# EAGLE library part XC2S300E_PQ208 (library xess)
Xilinx SpartanIIE 300 Kgate FPGA
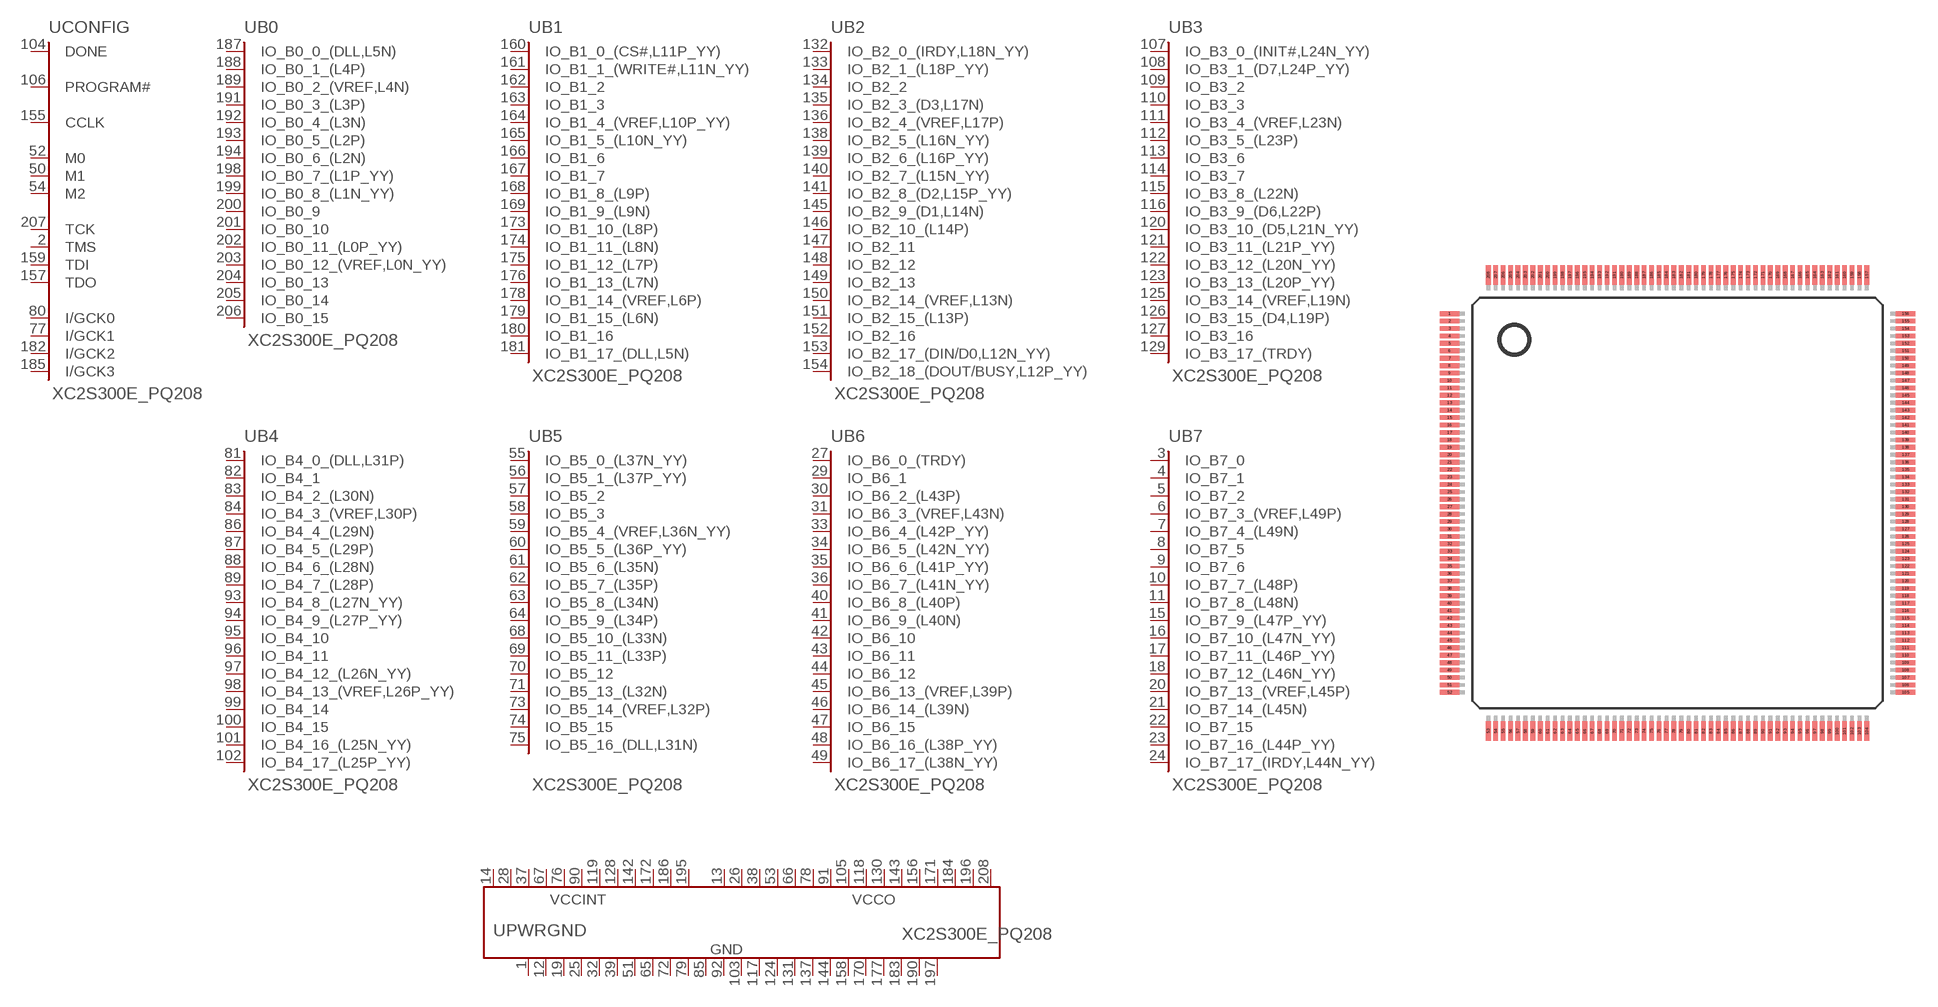
[diagram p14: symbol with the pads of PQ208; footprint PQ208]

Designator prefix U; gates B0=XC2SE_B0 B1=XC2SE_B1 B2=XC2SE_B2 B3=XC2SE_B3 B4=XC2SE_B4 B5=XC2SE_B5 B6=XC2SE_B6 B7=XC2SE_B7 CONFIG=XC2SE_CONFIG PWRGND=XC2SE_PWRGND

## XC2S300E_PQ208  [PQ208]
1  PWRGND:GND  pwr
2  CONFIG:TMS  in
3  B7:IO_B7_0
4  B7:IO_B7_1
5  B7:IO_B7_2
6  B7:IO_B7_3_(VREF,L49P)
7  B7:IO_B7_4_(L49N)
8  B7:IO_B7_5
9  B7:IO_B7_6
10  B7:IO_B7_7_(L48P)
11  B7:IO_B7_8_(L48N)
12  PWRGND:GND  pwr
13  PWRGND:VCCO  pwr
14  PWRGND:VCCINT  pwr
15  B7:IO_B7_9_(L47P_YY)
16  B7:IO_B7_10_(L47N_YY)
17  B7:IO_B7_11_(L46P_YY)
18  B7:IO_B7_12_(L46N_YY)
19  PWRGND:GND  pwr
20  B7:IO_B7_13_(VREF,L45P)
21  B7:IO_B7_14_(L45N)
22  B7:IO_B7_15
23  B7:IO_B7_16_(L44P_YY)
24  B7:IO_B7_17_(IRDY,L44N_YY)
25  PWRGND:GND  pwr
26  PWRGND:VCCO  pwr
27  B6:IO_B6_0_(TRDY)
28  PWRGND:VCCINT  pwr
29  B6:IO_B6_1
30  B6:IO_B6_2_(L43P)
31  B6:IO_B6_3_(VREF,L43N)
32  PWRGND:GND  pwr
33  B6:IO_B6_4_(L42P_YY)
34  B6:IO_B6_5_(L42N_YY)
35  B6:IO_B6_6_(L41P_YY)
36  B6:IO_B6_7_(L41N_YY)
37  PWRGND:VCCINT  pwr
38  PWRGND:VCCO  pwr
39  PWRGND:GND  pwr
40  B6:IO_B6_8_(L40P)
41  B6:IO_B6_9_(L40N)
42  B6:IO_B6_10
43  B6:IO_B6_11
44  B6:IO_B6_12
45  B6:IO_B6_13_(VREF,L39P)
46  B6:IO_B6_14_(L39N)
47  B6:IO_B6_15
48  B6:IO_B6_16_(L38P_YY)
49  B6:IO_B6_17_(L38N_YY)
50  CONFIG:M1  in
51  PWRGND:GND  pwr
52  CONFIG:M0  in
53  PWRGND:VCCO  pwr
54  CONFIG:M2  in
55  B5:IO_B5_0_(L37N_YY)
56  B5:IO_B5_1_(L37P_YY)
57  B5:IO_B5_2
58  B5:IO_B5_3
59  B5:IO_B5_4_(VREF,L36N_YY)
60  B5:IO_B5_5_(L36P_YY)
61  B5:IO_B5_6_(L35N)
62  B5:IO_B5_7_(L35P)
63  B5:IO_B5_8_(L34N)
64  B5:IO_B5_9_(L34P)
65  PWRGND:GND  pwr
66  PWRGND:VCCO  pwr
67  PWRGND:VCCINT  pwr
68  B5:IO_B5_10_(L33N)
69  B5:IO_B5_11_(L33P)
70  B5:IO_B5_12
71  B5:IO_B5_13_(L32N)
72  PWRGND:GND  pwr
73  B5:IO_B5_14_(VREF,L32P)
74  B5:IO_B5_15
75  B5:IO_B5_16_(DLL,L31N)
76  PWRGND:VCCINT  pwr
77  CONFIG:I/GCK1  in
78  PWRGND:VCCO  pwr
79  PWRGND:GND  pwr
80  CONFIG:I/GCK0  in
81  B4:IO_B4_0_(DLL,L31P)
82  B4:IO_B4_1
83  B4:IO_B4_2_(L30N)
84  B4:IO_B4_3_(VREF,L30P)
85  PWRGND:GND  pwr
86  B4:IO_B4_4_(L29N)
87  B4:IO_B4_5_(L29P)
88  B4:IO_B4_6_(L28N)
89  B4:IO_B4_7_(L28P)
90  PWRGND:VCCINT  pwr
91  PWRGND:VCCO  pwr
92  PWRGND:GND  pwr
93  B4:IO_B4_8_(L27N_YY)
94  B4:IO_B4_9_(L27P_YY)
95  B4:IO_B4_10
96  B4:IO_B4_11
97  B4:IO_B4_12_(L26N_YY)
98  B4:IO_B4_13_(VREF,L26P_YY)
99  B4:IO_B4_14
100  B4:IO_B4_15
101  B4:IO_B4_16_(L25N_YY)
102  B4:IO_B4_17_(L25P_YY)
103  PWRGND:GND  pwr
104  CONFIG:DONE  out
105  PWRGND:VCCO  pwr
106  CONFIG:PROGRAM#  in
107  B3:IO_B3_0_(INIT#,L24N_YY)
108  B3:IO_B3_1_(D7,L24P_YY)
109  B3:IO_B3_2
110  B3:IO_B3_3
111  B3:IO_B3_4_(VREF,L23N)
112  B3:IO_B3_5_(L23P)
113  B3:IO_B3_6
114  B3:IO_B3_7
115  B3:IO_B3_8_(L22N)
116  B3:IO_B3_9_(D6,L22P)
117  PWRGND:GND  pwr
118  PWRGND:VCCO  pwr
119  PWRGND:VCCINT  pwr
120  B3:IO_B3_10_(D5,L21N_YY)
121  B3:IO_B3_11_(L21P_YY)
122  B3:IO_B3_12_(L20N_YY)
123  B3:IO_B3_13_(L20P_YY)
124  PWRGND:GND  pwr
125  B3:IO_B3_14_(VREF,L19N)
126  B3:IO_B3_15_(D4,L19P)
127  B3:IO_B3_16
128  PWRGND:VCCINT  pwr
129  B3:IO_B3_17_(TRDY)
130  PWRGND:VCCO  pwr
131  PWRGND:GND  pwr
132  B2:IO_B2_0_(IRDY,L18N_YY)
133  B2:IO_B2_1_(L18P_YY)
134  B2:IO_B2_2
135  B2:IO_B2_3_(D3,L17N)
136  B2:IO_B2_4_(VREF,L17P)
137  PWRGND:GND  pwr
138  B2:IO_B2_5_(L16N_YY)
139  B2:IO_B2_6_(L16P_YY)
140  B2:IO_B2_7_(L15N_YY)
141  B2:IO_B2_8_(D2,L15P_YY)
142  PWRGND:VCCINT  pwr
143  PWRGND:VCCO  pwr
144  PWRGND:GND  pwr
145  B2:IO_B2_9_(D1,L14N)
146  B2:IO_B2_10_(L14P)
147  B2:IO_B2_11
148  B2:IO_B2_12
149  B2:IO_B2_13
150  B2:IO_B2_14_(VREF,L13N)
151  B2:IO_B2_15_(L13P)
152  B2:IO_B2_16
153  B2:IO_B2_17_(DIN/D0,L12N_YY)
154  B2:IO_B2_18_(DOUT/BUSY,L12P_YY)
155  CONFIG:CCLK  in
156  PWRGND:VCCO  pwr
157  CONFIG:TDO  out
158  PWRGND:GND  pwr
159  CONFIG:TDI  in
160  B1:IO_B1_0_(CS#,L11P_YY)
161  B1:IO_B1_1_(WRITE#,L11N_YY)
162  B1:IO_B1_2
163  B1:IO_B1_3
164  B1:IO_B1_4_(VREF,L10P_YY)
165  B1:IO_B1_5_(L10N_YY)
166  B1:IO_B1_6
167  B1:IO_B1_7
168  B1:IO_B1_8_(L9P)
169  B1:IO_B1_9_(L9N)
170  PWRGND:GND  pwr
171  PWRGND:VCCO  pwr
172  PWRGND:VCCINT  pwr
173  B1:IO_B1_10_(L8P)
174  B1:IO_B1_11_(L8N)
175  B1:IO_B1_12_(L7P)
176  B1:IO_B1_13_(L7N)
177  PWRGND:GND  pwr
178  B1:IO_B1_14_(VREF,L6P)
179  B1:IO_B1_15_(L6N)
180  B1:IO_B1_16
181  B1:IO_B1_17_(DLL,L5N)
182  CONFIG:I/GCK2  in
183  PWRGND:GND  pwr
184  PWRGND:VCCO  pwr
185  CONFIG:I/GCK3  in
186  PWRGND:VCCINT  pwr
187  B0:IO_B0_0_(DLL,L5N)
188  B0:IO_B0_1_(L4P)
189  B0:IO_B0_2_(VREF,L4N)
190  PWRGND:GND  pwr
191  B0:IO_B0_3_(L3P)
192  B0:IO_B0_4_(L3N)
193  B0:IO_B0_5_(L2P)
194  B0:IO_B0_6_(L2N)
195  PWRGND:VCCINT  pwr
196  PWRGND:VCCO  pwr
197  PWRGND:GND  pwr
198  B0:IO_B0_7_(L1P_YY)
199  B0:IO_B0_8_(L1N_YY)
200  B0:IO_B0_9
201  B0:IO_B0_10
202  B0:IO_B0_11_(L0P_YY)
203  B0:IO_B0_12_(VREF,L0N_YY)
204  B0:IO_B0_13
205  B0:IO_B0_14
206  B0:IO_B0_15
207  CONFIG:TCK  in
208  PWRGND:VCCO  pwr

## Footprint PQ208 (pad centres in mm)
smd 1.3 x 0.32: 1 -15.358,12.75; 2 -15.358,12.25; 3 -15.358,11.75; 4 -15.358,11.25; 5 -15.358,10.75; 6 -15.358,10.25; 7 -15.358,9.75; 8 -15.358,9.25; 9 -15.358,8.75; 10 -15.358,8.25; 11 -15.358,7.75; 12 -15.358,7.25; 13 -15.358,6.75; 14 -15.358,6.25; 15 -15.358,5.75; 16 -15.358,5.25; 17 -15.358,4.75; 18 -15.358,4.25; 19 -15.358,3.75; 20 -15.358,3.25; 21 -15.358,2.75; 22 -15.358,2.25; 23 -15.358,1.75; 24 -15.358,1.25; 25 -15.358,0.75; 26 -15.358,0.25; 27 -15.358,-0.25; 28 -15.358,-0.75; 29 -15.358,-1.25; 30 -15.358,-1.75; 31 -15.358,-2.25; 32 -15.358,-2.75; 33 -15.358,-3.25; 34 -15.358,-3.75; 35 -15.358,-4.25; 36 -15.358,-4.75; 37 -15.358,-5.25; 38 -15.358,-5.75; 39 -15.358,-6.25; 40 -15.358,-6.75; 41 -15.358,-7.25; 42 -15.358,-7.75; 43 -15.358,-8.25; 44 -15.358,-8.75; 45 -15.358,-9.25; 46 -15.358,-9.75; 47 -15.358,-10.25; 48 -15.358,-10.75; 49 -15.358,-11.25; 50 -15.358,-11.75; 51 -15.358,-12.25; 52 -15.358,-12.75; 105 15.358,-12.75; 106 15.358,-12.25; 107 15.358,-11.75; 108 15.358,-11.25; 109 15.358,-10.75; 110 15.358,-10.25; 111 15.358,-9.75; 112 15.358,-9.25; 113 15.358,-8.75; 114 15.358,-8.25; 115 15.358,-7.75; 116 15.358,-7.25; 117 15.358,-6.75; 118 15.358,-6.25; 119 15.358,-5.75; 120 15.358,-5.25; 121 15.358,-4.75; 122 15.358,-4.25; 123 15.358,-3.75; 124 15.358,-3.25; 125 15.358,-2.75; 126 15.358,-2.25; 127 15.358,-1.75; 128 15.358,-1.25; 129 15.358,-0.75; 130 15.358,-0.25; 131 15.358,0.25; 132 15.358,0.75; 133 15.358,1.25; 134 15.358,1.75; 135 15.358,2.25; 136 15.358,2.75; 137 15.358,3.25; 138 15.358,3.75; 139 15.358,4.25; 140 15.358,4.75; 141 15.358,5.25; 142 15.358,5.75; 143 15.358,6.25; 144 15.358,6.75; 145 15.358,7.25; 146 15.358,7.75; 147 15.358,8.25; 148 15.358,8.75; 149 15.358,9.25; 150 15.358,9.75; 151 15.358,10.25; 152 15.358,10.75; 153 15.358,11.25; 154 15.358,11.75; 155 15.358,12.25; 156 15.358,12.75
smd 0.32 x 1.3: 53 -12.75,-15.358; 54 -12.25,-15.358; 55 -11.75,-15.358; 56 -11.25,-15.358; 57 -10.75,-15.358; 58 -10.25,-15.358; 59 -9.75,-15.358; 60 -9.25,-15.358; 61 -8.75,-15.358; 62 -8.25,-15.358; 63 -7.75,-15.358; 64 -7.25,-15.358; 65 -6.75,-15.358; 66 -6.25,-15.358; 67 -5.75,-15.358; 68 -5.25,-15.358; 69 -4.75,-15.358; 70 -4.25,-15.358; 71 -3.75,-15.358; 72 -3.25,-15.358; 73 -2.75,-15.358; 74 -2.25,-15.358; 75 -1.75,-15.358; 76 -1.25,-15.358; 77 -0.75,-15.358; 78 -0.25,-15.358; 79 0.25,-15.358; 80 0.75,-15.358; 81 1.25,-15.358; 82 1.75,-15.358; 83 2.25,-15.358; 84 2.75,-15.358; 85 3.25,-15.358; 86 3.75,-15.358; 87 4.25,-15.358; 88 4.75,-15.358; 89 5.25,-15.358; 90 5.75,-15.358; 91 6.25,-15.358; 92 6.75,-15.358; 93 7.25,-15.358; 94 7.75,-15.358; 95 8.25,-15.358; 96 8.75,-15.358; 97 9.25,-15.358; 98 9.75,-15.358; 99 10.25,-15.358; 100 10.75,-15.358; 101 11.25,-15.358; 102 11.75,-15.358; 103 12.25,-15.358; 104 12.75,-15.358; 157 12.75,15.358; 158 12.25,15.358; 159 11.75,15.358; 160 11.25,15.358; 161 10.75,15.358; 162 10.25,15.358; 163 9.75,15.358; 164 9.25,15.358; 165 8.75,15.358; 166 8.25,15.358; 167 7.75,15.358; 168 7.25,15.358; 169 6.75,15.358; 170 6.25,15.358; 171 5.75,15.358; 172 5.25,15.358; 173 4.75,15.358; 174 4.25,15.358; 175 3.75,15.358; 176 3.25,15.358; 177 2.75,15.358; 178 2.25,15.358; 179 1.75,15.358; 180 1.25,15.358; 181 0.75,15.358; 182 0.25,15.358; 183 -0.25,15.358; 184 -0.75,15.358; 185 -1.25,15.358; 186 -1.75,15.358; 187 -2.25,15.358; 188 -2.75,15.358; 189 -3.25,15.358; 190 -3.75,15.358; 191 -4.25,15.358; 192 -4.75,15.358; 193 -5.25,15.358; 194 -5.75,15.358; 195 -6.25,15.358; 196 -6.75,15.358; 197 -7.25,15.358; 198 -7.75,15.358; 199 -8.25,15.358; 200 -8.75,15.358; 201 -9.25,15.358; 202 -9.75,15.358; 203 -10.25,15.358; 204 -10.75,15.358; 205 -11.25,15.358; 206 -11.75,15.358; 207 -12.25,15.358; 208 -12.75,15.358